# Altium footprint library C8T6.PcbLib: 14 footprints
Each footprint in its own frame and in the unit in brackets; x right, y up, seen from the top. Pads: shape width x height; smd on the part's side, far side on the other; paste and mask are expansions set on the pad; w line width, h text height; cw(c..) or ccw(c..) is an arc to the next point about the centre after c.
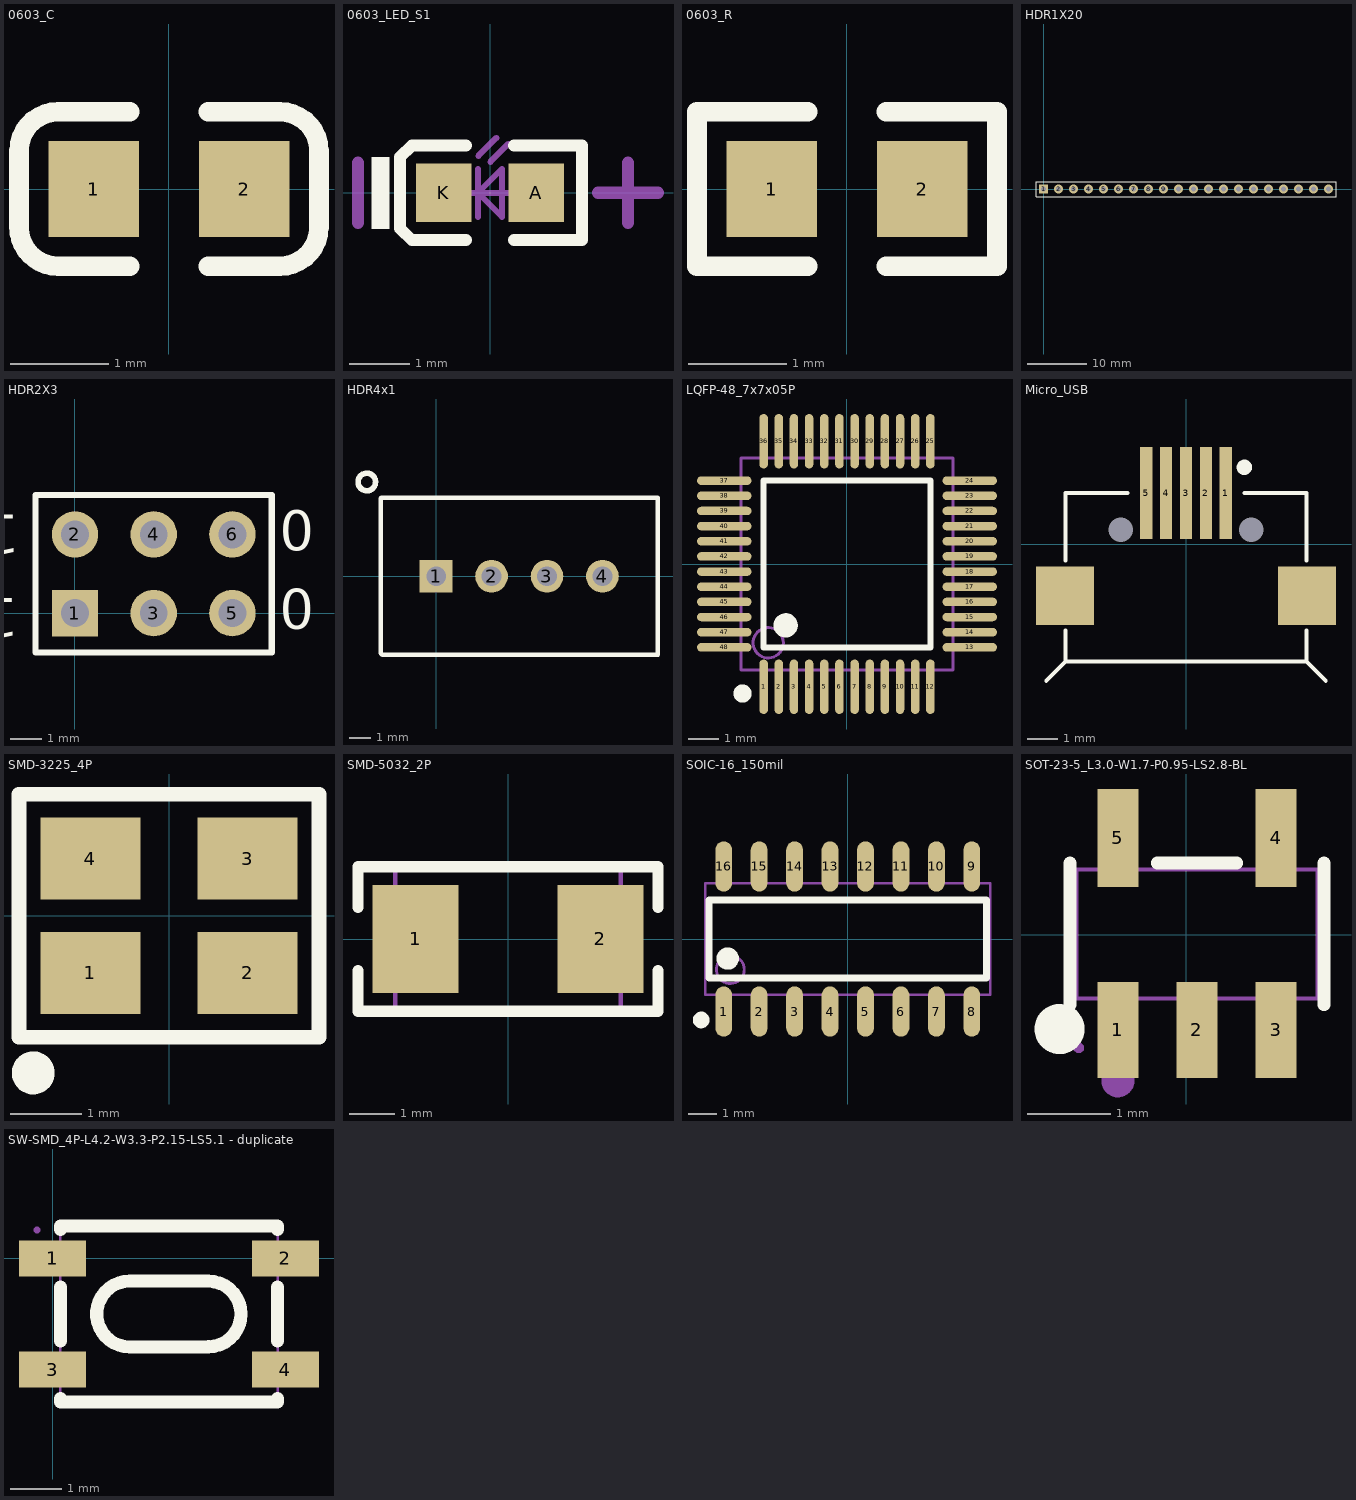
[diagram p0: the footprints below, top view; thin cyan lines are the x and y axes]

## 0603_C [mm]
pads (2):
  rect 0.93x0.98 smd: 1(-0.77,0) 2(0.77,0)
Top Overlay:
  lines w0.2: -0.4,-0.79 -1.135,-0.79 cw(c-1.135,-0.39) -1.535,-0.39 -1.535,0.39 cw(c-1.135,0.39) -1.135,0.79 -0.4,0.79 ; 0.4,-0.79 1.135,-0.79 ccw(c1.135,-0.39) 1.535,-0.39 1.535,0.39 ccw(c1.135,0.39) 1.135,0.79 0.4,0.79
3D body "User Library-0603 SMD Capacitor.STEP": height 0.3, standoff 0, extent -0.8,-0.4 0.8,0.4

## 0603_LED_S1 [mm]
pads (2):
  rect 0.93x0.98 smd: A(0.77,0) K(-0.77,0)
Top Overlay:
  rectangle: -1.975,-0.6 -1.675,0.6
  lines w0.2: -0.4,-0.79 -1.3,-0.79 -1.5,-0.597 -1.5,0.597 -1.3,0.79 -0.4,0.79 ; 0.4,-0.79 1.535,-0.79 1.535,0.79 0.4,0.79
Mechanical 13:
  lines w0.1: -0.4,0 0.4,0 ; -0.2,-0.4 -0.2,0.4 ; -0.195,0.617 0.105,0.917 ; 0.005,0.517 0.305,0.817 ; -0.2,0 0.2,0.4 0.2,-0.4 -0.2,0
Mechanical 15:
  lines w0.203: -2.2,-0.5 -2.2,0.5 ; 1.8,0 2.8,0 ; 2.3,-0.5 2.3,0.5
3D body "User Library-LED_0603_R.STEP": height 0.6, standoff 0, extent -0.8,-0.4 0.8,0.4

## 0603_R [mm]
pads (2):
  rect 0.93x0.98 smd: 1(-0.77,0) 2(0.77,0)
Top Overlay:
  lines w0.2: -0.4,-0.79 -1.535,-0.79 -1.535,0.79 -0.4,0.79 ; 0.4,-0.79 1.535,-0.79 1.535,0.79 0.4,0.79
3D body "User Library-RES_1609-0603.STEP": height 0.56, standoff 0, extent -0.85,-0.4 0.85,0.4

## HDR1X20 [mm] "Connector; Header; 20 Position"
height 4.32
pads (20):
  rect 1.5x1.5 hole 0.9: 1(0,0)
  round 1.5 hole 0.9: 2(2.54,0) 3(5.08,0) 4(7.62,0) 5(10.16,0) 6(12.7,0) 7(15.24,0) 8(17.78,0) 9(20.32,0) 10(22.86,0) 11(25.4,0) 12(27.94,0) 13(30.48,0) 14(33.02,0) 15(35.56,0) 16(38.1,0) 17(40.64,0) 18(43.18,0) 19(45.72,0) 20(48.26,0)
Top Overlay:
  lines w0.2: -1.27,-1.27 49.53,-1.27 49.53,1.27 0.635,1.27 -1.27,1.27 -1.27,-1.27
3D body "24pin.stp": height 2.85, standoff -2.75, extent 12.983,-1 29.083,1

## HDR2X3 [mm] "Connector; Header; 3x2 Position"
height 4.32
pads (6):
  rect 1.5x1.5 hole 0.9: 1(0,0)
  round 1.5 hole 0.9: 2(0,2.54) 3(2.54,0) 4(2.54,2.54) 5(5.08,0) 6(5.08,2.54)
Top Overlay:
  lines w0.2: 1.482,-1.27 6.35,-1.27 ; 6.35,-1.27 -1.27,-1.27 -1.27,3.81 6.35,3.81 6.35,-1.27
  text "1" at -1.807,0.486 h1.27
  text "1" at -1.778,3.175 h1.27
  text "0" at 6.604,-0.508 h1.27
  text "0" at 6.604,2.032 h1.27

## HDR4x1 [mm] "4X1排针"
pads (4):
  rect 1.5x1.5 hole 0.9: 1(0,0)
  round 1.5 hole 0.9: 2(2.54,0) 3(5.08,0) 4(7.62,0)
Top Overlay:
  circle w0.254: c-3.175,4.318 r0.402
  lines w0.2: 10.147,3.6 -2.509,3.6 -2.54,3.569 -2.54,-3.53 -2.47,-3.6 10.165,-3.6 ; 10.16,-3.531 10.16,3.585

## LQFP-48_7x7x05P [mm]
pads (48):
  oval 0.28x1.8 smd mask+0.051: 1(-2.75,-4.05) 2(-2.25,-4.05) 3(-1.75,-4.05) 4(-1.25,-4.05) 5(-0.75,-4.05) 6(-0.25,-4.05) 7(0.25,-4.05) 8(0.75,-4.05) 9(1.25,-4.05) 10(1.75,-4.05) 11(2.25,-4.05) 12(2.75,-4.05) 25(2.75,4.05) 26(2.25,4.05) 27(1.75,4.05) 28(1.25,4.05) 29(0.75,4.05) 30(0.25,4.05) 31(-0.25,4.05) 32(-0.75,4.05) 33(-1.25,4.05) 34(-1.75,4.05) 35(-2.25,4.05) 36(-2.75,4.05)
  oval 1.8x0.28 smd mask+0.051: 13(4.05,-2.75) 14(4.05,-2.25) 15(4.05,-1.75) 16(4.05,-1.25) 17(4.05,-0.75) 18(4.05,-0.25) 19(4.05,0.25) 20(4.05,0.75) 21(4.05,1.25) 22(4.05,1.75) 23(4.05,2.25) 24(4.05,2.75) 37(-4.05,2.75) 38(-4.05,2.25) 39(-4.05,1.75) 40(-4.05,1.25) 41(-4.05,0.75) 42(-4.05,0.25) 43(-4.05,-0.25) 44(-4.05,-0.75) 45(-4.05,-1.25) 46(-4.05,-1.75) 47(-4.05,-2.25) 48(-4.05,-2.75)
Top Overlay:
  circle w0.3: c-3.45,-4.275 r0.15
  circle w0.4: c-2.025,-2.025 r0.2
  lines w0.2: -2.75,-2.75 2.75,-2.75 2.75,2.75 -2.75,2.75 -2.75,-2.75
Mechanical 13:
  circle w0.1: c-2.6,-2.6 r0.5
  lines w0.1: -3.5,-3.5 3.5,-3.5 3.5,3.5 -3.5,3.5 -3.5,-3.5
3D body "QFP48P50_900X900X160L60X19.STEP": height 1.6, standoff 0, extent -4.5,-4.5 4.5,4.5

## Micro_USB [mm]
height 4.32
pads (9):
  rect 0.4x3 smd: 1(1.3,1.679) 2(0.65,1.679) 3(0,1.679) 4(-0.65,1.679) 5(-1.3,1.679)
  round 0 hole 0.8 unplated: MH1(2.127,0.471) MH2(-2.127,0.471)
  rect 1.9x1.9 smd: ""(-3.95,-1.679) ""(3.95,-1.679)
Top Overlay:
  circle w0.25: c1.905,2.519 r0.125
  lines w0.127: -4.567,-4.459 -3.937,-3.829 -3.937,-2.813 ; -3.937,-0.527 -3.937,1.679 ; -3.9,-3.829 3.9,-3.829 ; -3.9,1.679 -1.905,1.679 ; 1.905,1.679 3.9,1.679 ; 3.937,-2.813 3.937,-3.829 4.567,-4.459 ; 3.937,-0.527 3.937,1.679
3D body "MICRO-USB.stp": height 5.58, standoff -0.19, extent -3.975,-1.853 3.975,1.544

## PCBComponent_1 [mm]

## SMD-3225_4P [mm]
pads (4):
  rect 1.4x1.15 smd: 1(-1.1,-0.8) 2(1.1,-0.8) 3(1.1,0.8) 4(-1.1,0.8)
Top Overlay:
  circle w0.3: c-1.9,-2.2 r0.15
  lines w0.203: -2.1,-1.7 2.1,-1.7 2.1,1.7 -2.1,1.7 -2.1,-1.7
3D body "User Library-3225-1.STEP": height 0.61, standoff 0, extent -1.6,-1.25 1.6,1.25

## SMD-5032_2P [mm]
pads (2):
  rect 1.9x2.4 smd: 1(-2.05,0) 2(2.05,0)
Top Overlay:
  lines w0.254: -3.325,-0.7 -3.325,-1.6 3.325,-1.6 3.325,-0.7 ; -3.325,0.7 -3.325,1.6 3.325,1.6 3.325,0.7
Mechanical 13:
  lines w0.1: -2.5,-1.6 -2.5,1.6 2.5,1.6 2.5,-1.6 -2.5,-1.6

## SOIC-16_150mil [mm]
pads (16):
  oval 0.6x1.8 smd: 1(-4.445,-2.6) 2(-3.175,-2.6) 3(-1.905,-2.6) 4(-0.635,-2.6) 5(0.635,-2.6) 6(1.905,-2.6) 7(3.175,-2.6) 8(4.445,-2.6) 9(4.445,2.6) 10(3.175,2.6) 11(1.905,2.6) 12(0.635,2.6) 13(-0.635,2.6) 14(-1.905,2.6) 15(-3.175,2.6) 16(-4.445,2.6)
Top Overlay:
  circle w0.3: c-5.25,-2.9 r0.15
  circle w0.4: c-4.3,-0.7 r0.2
  lines w0.254: -4.975,-1.4 4.975,-1.4 4.975,1.4 -4.975,1.4 -4.975,-1.4
Mechanical 13:
  circle w0.1: c-4.205,-1.095 r0.5
  lines w0.1: -5.105,-1.995 5.105,-1.995 5.105,1.995 -5.105,1.995 -5.105,-1.995
3D body "SOIC16P127_990X600X175L60X40.STEP": height 1.75, standoff 0, extent -4.95,-2.97 4.95,3.03

## SOT-23-5_L3.0-W1.7-P0.95-LS2.8-BL [mm]
pads (5):
  rect 0.49x1.157 smd paste+0 mask+0.051: 1(-0.823,-1.143) 2(0.127,-1.143) 3(1.077,-1.143)
  rect 0.49x1.175 smd paste+0 mask+0.051: 4(1.077,1.164) 5(-0.823,1.164)
Top Overlay:
  circle w0.3: c-1.524,-1.132 r0.15
  lines w0.152: -1.399,-0.841 -1.399,0.862 ; -0.349,0.862 0.603,0.862 ; 1.653,-0.841 1.653,0.862
Mechanical 6:
  circle w0.2: c-0.823,-1.752 r0.1
Mechanical 15:
  region: -0.998,-1.389 -0.998,-0.989 -0.648,-0.989 -0.648,-1.389
  region: -0.998,-0.999 -0.998,-0.729 -0.648,-0.729 -0.648,-0.999
  region: -0.048,-1.389 -0.048,-0.989 0.302,-0.989 0.302,-1.389
  region: -0.048,-0.999 -0.048,-0.729 0.302,-0.729 0.302,-0.999
  region: 0.902,-1.389 0.902,-0.989 1.252,-0.989 1.252,-1.389
  region: 0.902,-0.999 0.902,-0.729 1.252,-0.729 1.252,-0.999
  region: 0.902,1.011 0.902,1.411 1.252,1.411 1.252,1.011
  region: 0.902,0.751 0.902,1.021 1.252,1.021 1.252,0.751
  region: -0.998,1.011 -0.998,1.411 -0.648,1.411 -0.648,1.011
  region: -0.998,0.751 -0.998,1.021 -0.648,1.021 -0.648,0.751
  region: -1.233,-1.359 -1.233,-1.334 -1.268,-1.299 -1.318,-1.299 -1.353,-1.334 -1.353,-1.359 -1.353,-1.384 -1.318,-1.419 -1.268,-1.419 -1.233,-1.384
  lines w0.051: -1.323,-0.764 -1.323,0.786 1.577,0.786 1.577,-0.764 -1.323,-0.764

## SW-SMD_4P-L4.2-W3.3-P2.15-LS5.1 - duplicate [mm]
pads (4):
  rect 1.3x0.7 smd paste+0 mask+0.051: 1(0,0) 2(4.5,0) 3(0,-2.15) 4(4.5,-2.15)
Top Overlay:
  lines w0.254: 0.15,-2.706 0.15,-2.775 4.35,-2.775 4.35,-2.706 ; 0.15,-1.594 0.15,-0.556 ; 0.15,0.556 0.15,0.625 4.35,0.625 4.35,0.556 ; 1.487,-0.439 ccw(c1.487,-1.075) 1.488,-1.71 3.012,-1.71 ; 1.488,-0.44 3.012,-0.44 cw(c3.007,-1.075) 3.011,-1.709 ; 4.35,-1.594 4.35,-0.556
Mechanical 15:
  region: 0.35,0.275 0.35,-0.275 -0.3,-0.275 -0.3,0.275
  region: 4.8,0.275 4.8,-0.275 4.15,-0.275 4.15,0.275
  region: 0.35,-1.875 0.35,-2.425 -0.3,-2.425 -0.3,-1.875
  region: 4.8,-1.875 4.8,-2.425 4.15,-2.425 4.15,-1.875
  region: -0.24,0.55 -0.24,0.575 -0.275,0.61 -0.325,0.61 -0.36,0.575 -0.36,0.55 -0.36,0.525 -0.325,0.49 -0.275,0.49 -0.24,0.525
  lines w0.051: 0.15,-2.7 4.35,-2.7 4.35,0.55 0.15,0.55 0.15,-2.7